# Altium footprint library Arduino_Nano.PcbLib: 1 footprints
Each footprint in its own frame and in the unit in brackets; x right, y up, seen from the top. Pads: shape width x height; smd on the part's side, far side on the other; paste and mask are expansions set on the pad; w line width, h text height; cw(c..) or ccw(c..) is an arc to the next point about the centre after c.
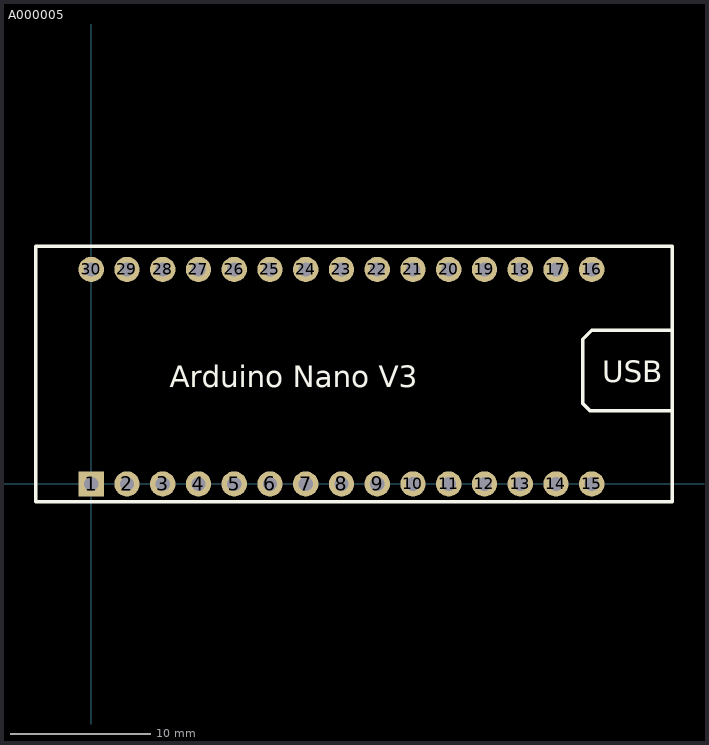
[diagram p0: the footprint, top view; thin cyan lines are the x and y axes]

## A000005 [mm] "Arduino Nano V3"
pads (30):
  rect 1.8x1.8 hole 1: 1(0,0)
  round 1.8 hole 1: 2(2.54,0) 3(5.08,0) 4(7.62,0) 5(10.16,0) 6(12.7,0) 7(15.24,0) 8(17.78,0) 9(20.32,0) 10(22.86,0) 11(25.4,0) 12(27.94,0) 13(30.48,0) 14(33.02,0) 15(35.56,0) 16(35.56,15.24) 17(33.02,15.24) 18(30.48,15.24) 19(27.94,15.24) 20(25.4,15.24) 21(22.86,15.24) 22(20.32,15.24) 23(17.78,15.24) 24(15.24,15.24) 25(12.7,15.24) 26(10.16,15.24) 27(7.62,15.24) 28(5.08,15.24) 29(2.54,15.24) 30(0,15.24)
Top Overlay:
  lines w0.254: 41.275,5.207 35.433,5.207 34.925,5.715 34.925,10.287 35.56,10.922 40.386,10.922 41.275,10.922 ; 41.275,5.207 41.275,-1.27 -3.937,-1.27 -3.937,16.891 41.275,16.891 41.275,10.922 ; 41.275,5.207 41.275,10.922
  text "USB" at 36.322,7.239 h1.52
  text "Arduino Nano V3" at 5.588,6.858 h1.52
3D body "arduino nano.STEP": height 5.5, standoff -13.1, extent -3.81,-1.253 41.19,16.747